# EAGLE library part MC34063A (library IC_for_Selfbus-Projects)
DC/DC converter control circuit
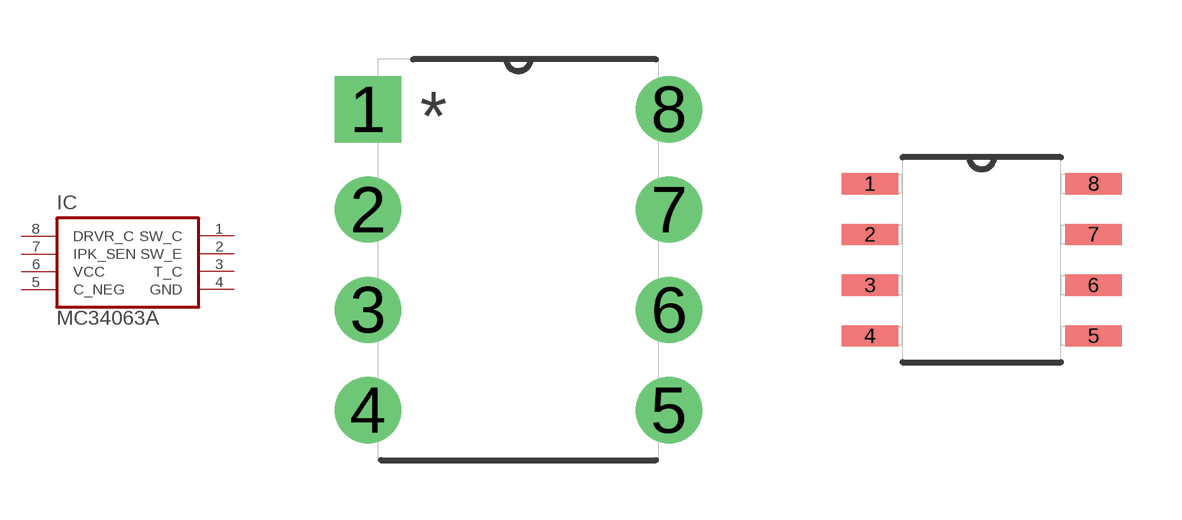
[diagram p0: symbol with the pads of DIP254P762X533-8; footprints DIP254P762X533-8, SOIC127P600X175-8N]

Designator prefix IC

## MC34063AP1 (PACKAGE: DIL8)  [DIP254P762X533-8]
1  SW_C  out
2  SW_E  out
3  T_C  out
4  GND  pas
5  C_NEG  in
6  VCC  pwr
7  IPK_SEN  in
8  DRVR_C  in

## MC34063AD  [SOIC127P600X175-8N]
Pads as for DIP254P762X533-8

## Footprint DIP254P762X533-8 (pad centres in mm)
Dual In Line Package
drill 1.118 square: 1 -7.62,7.62
drill 1.118: 2 -7.62,5.08; 3 -7.62,2.54; 4 -7.62,0; 5 0,0; 6 0,2.54; 7 0,5.08; 8 0,7.62

## Footprint SOIC127P600X175-8N (pad centres in mm)
Small Outline Package
smd 1.422 x 0.533: 1 -2.794,1.27; 2 -2.794,0; 3 -2.794,-1.27; 4 -2.794,-2.54; 5 2.794,-2.54; 6 2.794,-1.27; 7 2.794,0; 8 2.794,1.27